# EAGLE library part MCP6L2-X_SN (library Combined)
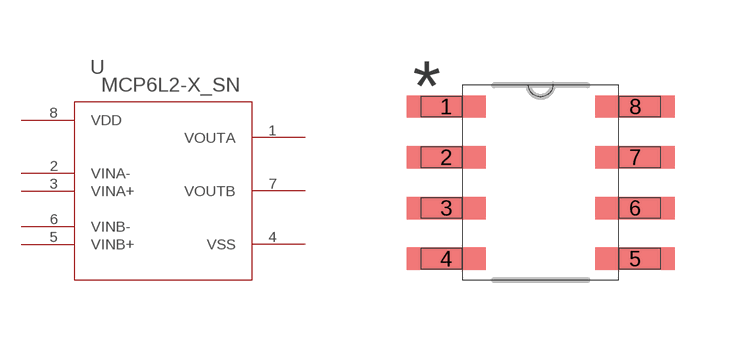
[diagram p0: symbol with the pads of SOIC8-N_MC; footprint SOIC8-N_MC]

Designator prefix -

## MCP6L2-X_SN  [SOIC8-N_MC]
1  VOUTA  pas
2  VINA-  pas
3  VINA+  pas
4  VSS  pas
5  VINB+  pas
6  VINB-  pas
7  VOUTB  pas
8  VDD  pas

## Footprint SOIC8-N_MC (pad centres in mm)
smd 1.981 x 0.559: 1 -2.362,1.905; 2 -2.362,0.635; 3 -2.362,-0.635; 4 -2.362,-1.905; 5 2.362,-1.905; 6 2.362,-0.635; 7 2.362,0.635; 8 2.362,1.905